# Altium schematic symbol library Semtech.SchLib: 1 symbol
Pins are listed as number, name and electrical type; pins without a type are passive.

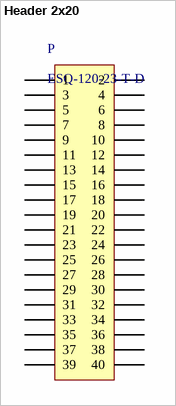
[diagram p0: symbol Header 2x20]

## Header 2x20
designator P, comment ESQ-120-23-T-D
Header 2x20 with Height h=13.59mm; CompionentLink1Description: *; ComponentLink1URL: *; PackageDescription: *; Supplier 1: Farnell; Supplier Part Number 1: 1931701; Manufacturer 1: *; Manufacturer Part Number 1: *; LayTec Nummer: *; PackageReferenz: *; PackageVersion: *; CompionentLink2Description: *; ComponentLink2URL: *; Value: ESQ-120-23-T-D
footprint Semtech Header 2x20 (Header 2x20, Body Height h=13.59mm, Pin Length l=4.83mm)
pins: 1, 2, 3, 4, 5, 6, 7, 8, 9, 10, 11, 12, 13, 14, 15, 16, 17, 18, 19, 20, 21, 22, 23, 24, 25, 26, 27, 28, 29, 30, 31, 32, 33, 34, 35, 36, 37, 38, 39, 40